# Altium footprint library arduinoNanocop.PcbLib: 2 footprints
Each footprint in its own frame and in the unit in brackets; x right, y up, seen from the top. Pads: shape width x height; smd on the part's side, far side on the other; paste and mask are expansions set on the pad; w line width, h text height; cw(c..) or ccw(c..) is an arc to the next point about the centre after c.
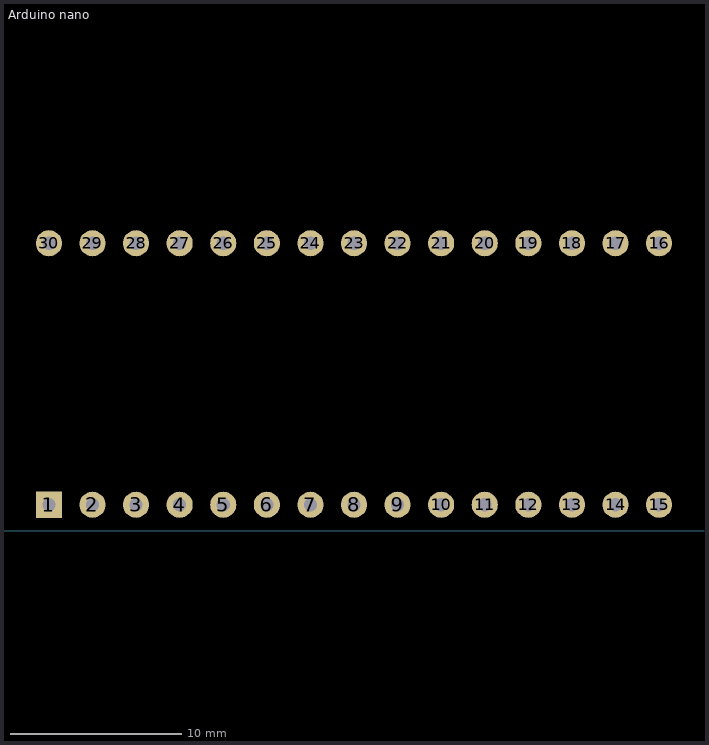
[diagram p0: the footprints below, top view; thin cyan lines are the x and y axes]

## Arduino nano [mil] "arduino nano"
height 1700
pads (30):
  rect 60x60 hole 30: 1(160,60)
  round 60 hole 30: 2(260,60) 3(360,60) 4(460,60) 5(560,60) 6(660,60) 7(760,60) 8(860,60) 9(960,60) 10(1060,60) 11(1160,60) 12(1260,60) 13(1360,60) 14(1460,60) 15(1560,60) 16(1560,660) 17(1460,660) 18(1360,660) 19(1260,660) 20(1160,660) 21(1060,660) 22(960,660) 23(860,660) 24(760,660) 25(660,660) 26(560,660) 27(460,660) 28(360,660) 29(260,660) 30(160,660)

## PCBComponent_1 [mil]